# Altium schematic symbol library EPK.00.250.NTN.SCHLIB: 1 symbol
Pins are listed as number, name and electrical type; pins without a type are passive.

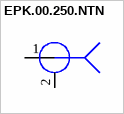
[diagram p0: symbol EPK.00.250.NTN]

## EPK.00.250.NTN
designator X?  (value not drawn)
LEMO Connector     coax pin EPK.00.250.NTN Elbow receptacle for printed circuit with clearance under the body, Female Contact Drawing Rev. 00 Source: http://www.lemo.com/catalog/ROW/UK_English/00and01Coaxial_en.pdf; Назначение: LEMO Connector, coax 1-pin; Наименование: EPK.00.250.NTN; ComponentLink1Description: DataSheet; ComponentLink1URL: https://www.lemo.com/pdf/EPK.00.250.NTN.pdf; Потребление, Вт: *
footprint EPK.00.250.NTN
pins: 1 Signal, 2 GND